# Altium footprint library 电感.PCBLIB: 32 footprints (part 2 of 2)
Each footprint in its own frame and in the unit in brackets; x right, y up, seen from the top. Pads: shape width x height; smd on the part's side, far side on the other; paste and mask are expansions set on the pad; w line width, h text height; cw(c..) or ccw(c..) is an arc to the next point about the centre after c.
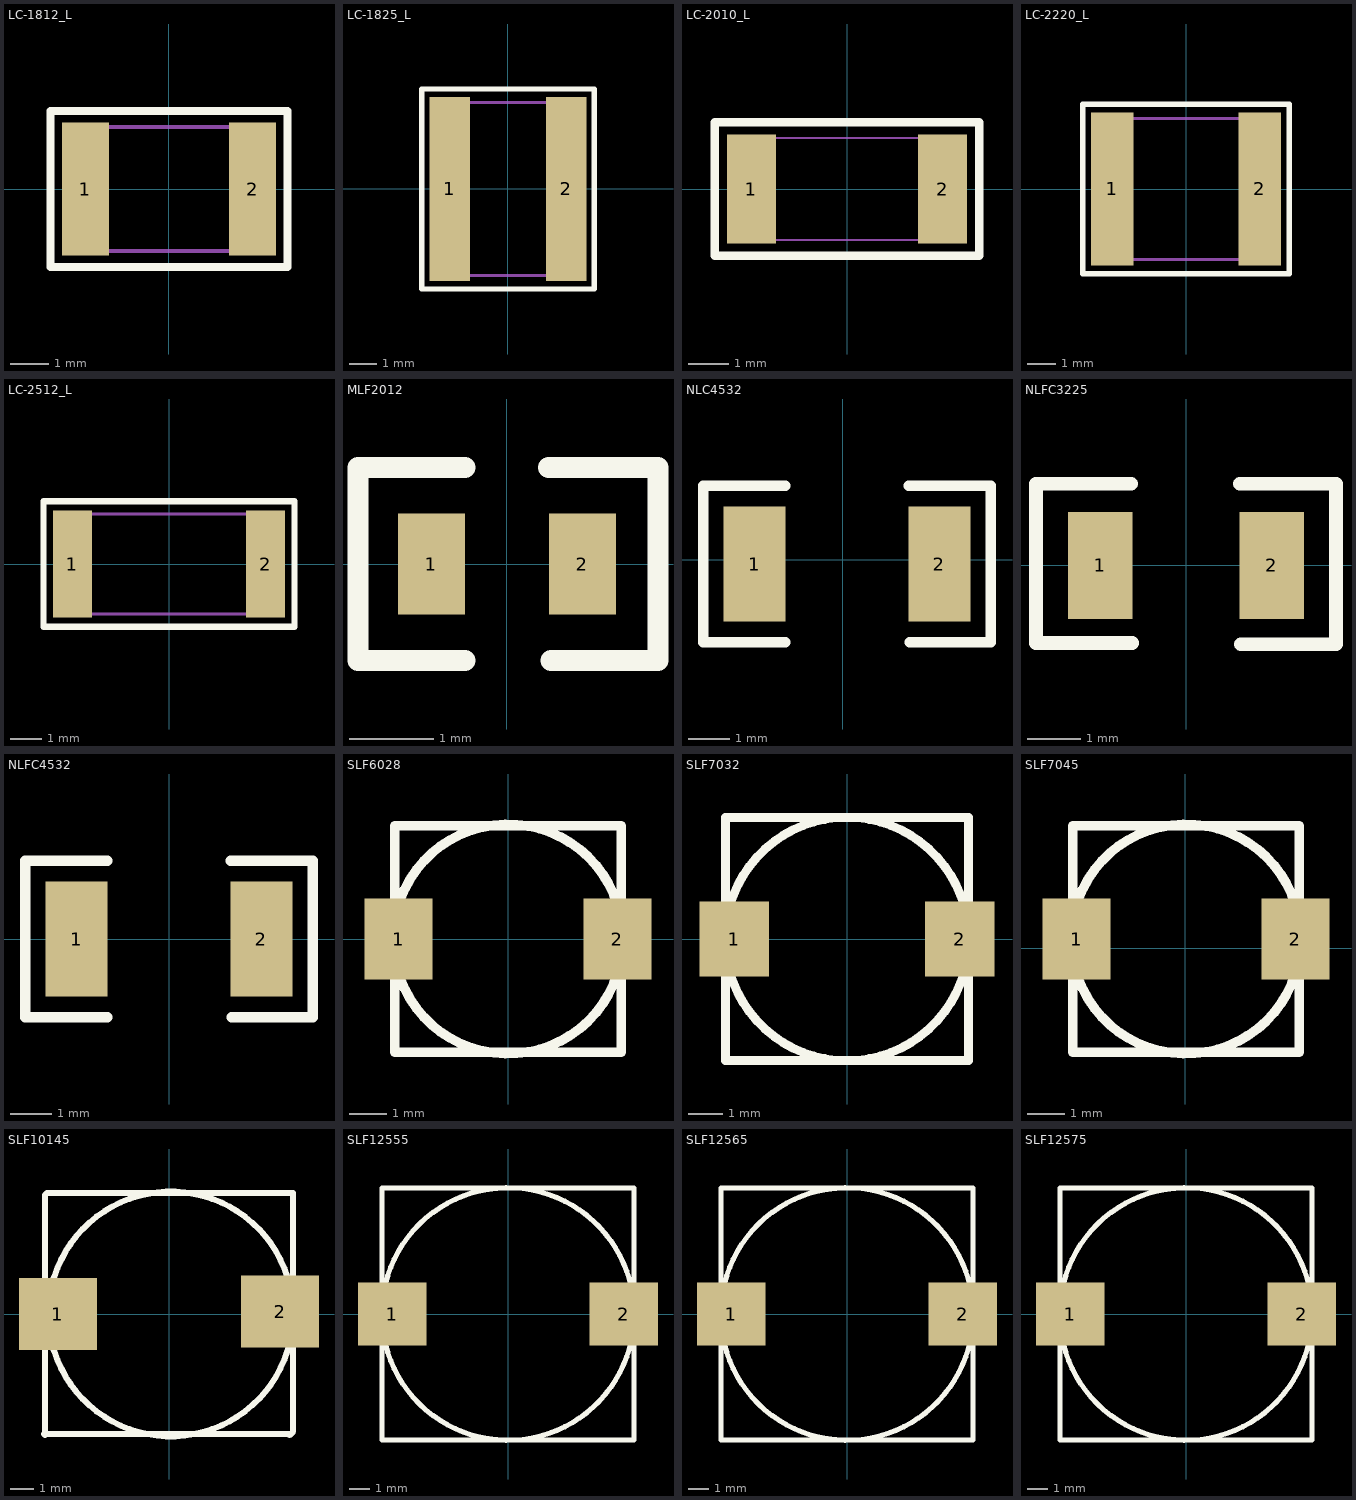
[diagram p1: the footprints below, top view; thin cyan lines are the x and y axes]

## LC-1812_L [mm]
pads (2):
  rect 1.2x3.42 smd: 1(-2.15,0) 2(2.15,0)
TopOverlay:
  lines w0.2: -3.05,-2.01 -3.05,2.01 3.05,2.01 3.05,-2.01 -3.05,-2.01
Mechanical13:
  lines w0.1: -2.25,-1.6 -2.25,1.6 2.25,1.6 2.25,-1.6 -2.25,-1.6

## LC-1825_L [mm]
pads (2):
  rect 1.5x6.81 smd: 1(-2.15,0) 2(2.15,0)
TopOverlay:
  lines w0.2: -3.2,-3.705 -3.2,3.705 3.2,3.705 3.2,-3.705 -3.2,-3.705
Mechanical13:
  lines w0.1: -2.3,-3.2 2.3,-3.2 2.3,3.2 -2.3,3.2 -2.3,-3.2

## LC-2010_L [mm]
pads (2):
  rect 1.2x2.67 smd: 1(-2.34,0) 2(2.34,0)
TopOverlay:
  lines w0.2: -3.24,-1.635 3.24,-1.635 3.24,1.635 -3.24,1.635 -3.24,-1.635
Mechanical13:
  lines w0.05: -2.5,-1.25 2.5,-1.25 2.5,1.25 -2.5,1.25 -2.5,-1.25

## LC-2220_L [mm]
pads (2):
  rect 1.5x5.42 smd: 1(-2.62,0) 2(2.62,0)
TopOverlay:
  lines w0.2: -3.67,-3.01 -3.67,3.01 3.67,3.01 3.67,-3.01 -3.67,-3.01
Mechanical13:
  lines w0.1: -2.9,-2.5 2.9,-2.5 2.9,2.5 -2.9,2.5 -2.9,-2.5

## LC-2512_L [mm]
pads (2):
  rect 1.25x3.42 smd: 1(-3.1,0) 2(3.1,0)
TopOverlay:
  lines w0.2: -4.025,-2.01 4.025,-2.01 4.025,2.01 -4.025,2.01 -4.025,-2.01
Mechanical13:
  lines w0.1: -3.15,-1.6 3.15,-1.6 3.15,1.6 -3.15,1.6 -3.15,-1.6

## MLF2012 [mm]
pads (2):
  rect 0.8x1.2 smd: 1(-0.9,0) 2(0.9,0)
TopOverlay:
  lines w0.254: -0.5,-1.15 -1.775,-1.15 -1.775,1.15 -0.5,1.15 ; 0.5,1.15 1.8,1.15 1.8,-1.15 0.525,-1.15

## NLC4532 [mm]
pads (2):
  rect 1.5x2.8 smd: 1(-2.15,-0.1) 2(2.35,-0.1)
TopOverlay:
  lines w0.254: -1.4,-2 -3.4,-2 -3.4,1.8 -1.4,1.8 ; 1.6,1.8 3.6,1.8 3.6,-2 1.625,-2

## NLFC3225 [mm]
pads (2):
  rect 1.2x2 smd: 1(-1.6,0) 2(1.6,0)
TopOverlay:
  lines w0.254: -1.025,1.525 -2.799,1.525 -2.799,-1.45 -1,-1.45 ; 1,1.525 2.799,1.525 2.799,-1.475 1.025,-1.475

## NLFC4532 [mm]
pads (2):
  rect 1.5x2.8 smd: 1(-2.25,0) 2(2.25,0)
TopOverlay:
  lines w0.254: -1.5,-1.9 -3.5,-1.9 -3.5,1.9 -1.5,1.9 ; 1.5,1.9 3.5,1.9 3.5,-1.9 1.525,-1.9

## SLF6028 [mm]
pads (2):
  rect 1.8x2.15 smd: 1(-2.9,0) 2(2.9,0)
TopOverlay:
  circle w0.254: c0,0 r3.041
  lines w0.254: -3,-3 -3,3 3,3 3,-3 -3,-3

## SLF7032 [mm]
pads (2):
  rect 2x2.15 smd: 1(-3.25,0) 2(3.25,0)
TopOverlay:
  circle w0.254: c0,0 r3.509
  lines w0.254: -3.5,-3.5 3.5,-3.5 3.5,3.5 -3.5,3.5 -3.5,-3.5

## SLF7045 [mm]
pads (2):
  rect 1.8x2.15 smd: 1(-2.875,0.25) 2(2.925,0.25)
TopOverlay:
  circle w0.254: c0.025,0.25 r3.041
  lines w0.254: -2.975,-2.75 3.025,-2.75 3.025,3.25 -2.975,3.25 -2.975,-2.75

## SLF10145 [mil]
pads (2):
  rect 130x120 smd: 1(-185.04,0) 2(185.04,3.94)
TopOverlay:
  circle w10: c3,0 r204.01
  lines w10: -208,-200 200,-200 ; -207,-202 -207,0 ; -207,-12 -207,198 -203,202 207,202 207,-196 ; 207,-196 201,-202 207,-196

## SLF12555 [mm]
pads (2):
  rect 3.4x3.15 smd: 1(-5.75,0) 2(5.75,0)
TopOverlay:
  circle w0.254: c0,0 r6.27
  lines w0.254: -6.25,-6.25 6.25,-6.25 6.25,6.25 -6.25,6.25 -6.25,-6.25

## SLF12565 [mm]
pads (2):
  rect 3.4x3.15 smd: 1(-5.75,0) 2(5.75,0)
TopOverlay:
  circle w0.254: c0,0 r6.27
  lines w0.254: -6.25,-6.25 -6.25,6.25 6.25,6.25 6.25,-6.25 -6.25,-6.25

## SLF12575 [mm]
pads (2):
  rect 3.4x3.15 smd: 1(-5.75,0) 2(5.75,0)
TopOverlay:
  circle w0.254: c0,0 r6.27
  lines w0.254: -6.25,-6.25 6.25,-6.25 6.25,6.25 -6.25,6.25 -6.25,-6.25